# EAGLE library part UCC27712 (library my_ic)
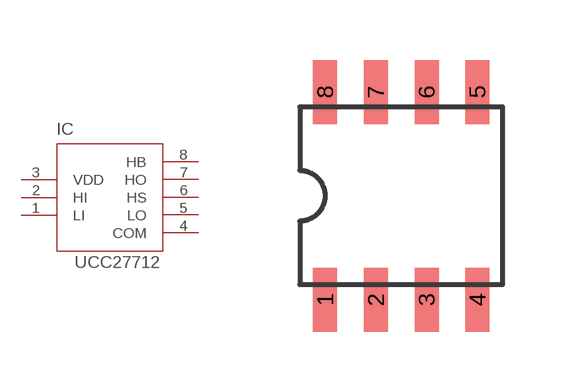
[diagram p30: symbol with the pads of SOP8; footprint SOP8]

Designator prefix IC

## UCC27712  [SOP8]
1  LI  in
2  HI  in
3  VDD  pwr
4  COM  pwr
5  LO  out
6  HS  pwr
7  HO  out
8  HB  pwr

## Footprint SOP8 (pad centres in mm)
SOP8 Source: http://www.rohm.com/products/databook/motor/pdf/bd623x_series-e.pdf
smd 0.6 x 1.6: 1 -1.905,-2.6; 2 -0.635,-2.6; 3 0.635,-2.6; 4 1.905,-2.6; 5 1.905,2.6; 6 0.635,2.6; 7 -0.635,2.6; 8 -1.905,2.6